# Altium schematic symbol library ZF5S-10-01-X-WT.SCHLIB: 1 symbol
Pins are listed as number, name and electrical type; pins without a type are passive.

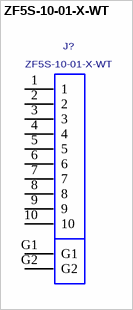
[diagram p0: symbol ZF5S-10-01-X-WT]

## ZF5S-10-01-X-WT
designator J?
ZERO INSERTION FORCE 0.5MM ASSEMBLY, 01 LEAD STYLE.; MANUFACTURER: SAMTEC; CREATED: January 30, 2015 - Wendy Xin; PCB DECAL: ZF5S-10-01-X-WT
footprint ZF5S-10-01-X-WT
pins: 1, 2, 3, 4, 5, 6, 7, 8, 9, 10, G1, G2